# Altium schematic symbol library VSRC2.Schlib: 1 symbol
Pins are listed as number, name and electrical type; pins without a type are passive.

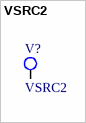
[diagram p0: symbol VSRC2]

## VSRC2
designator V?
Voltage Source
pins: 1